# Altium footprint library PINPAD.PCBLIB: 151 footprints (part 8 of 10)
Each footprint in its own frame and in the unit in brackets; x right, y up, seen from the top. Pads: shape width x height; smd on the part's side, far side on the other; paste and mask are expansions set on the pad; w line width, h text height; cw(c..) or ccw(c..) is an arc to the next point about the centre after c.
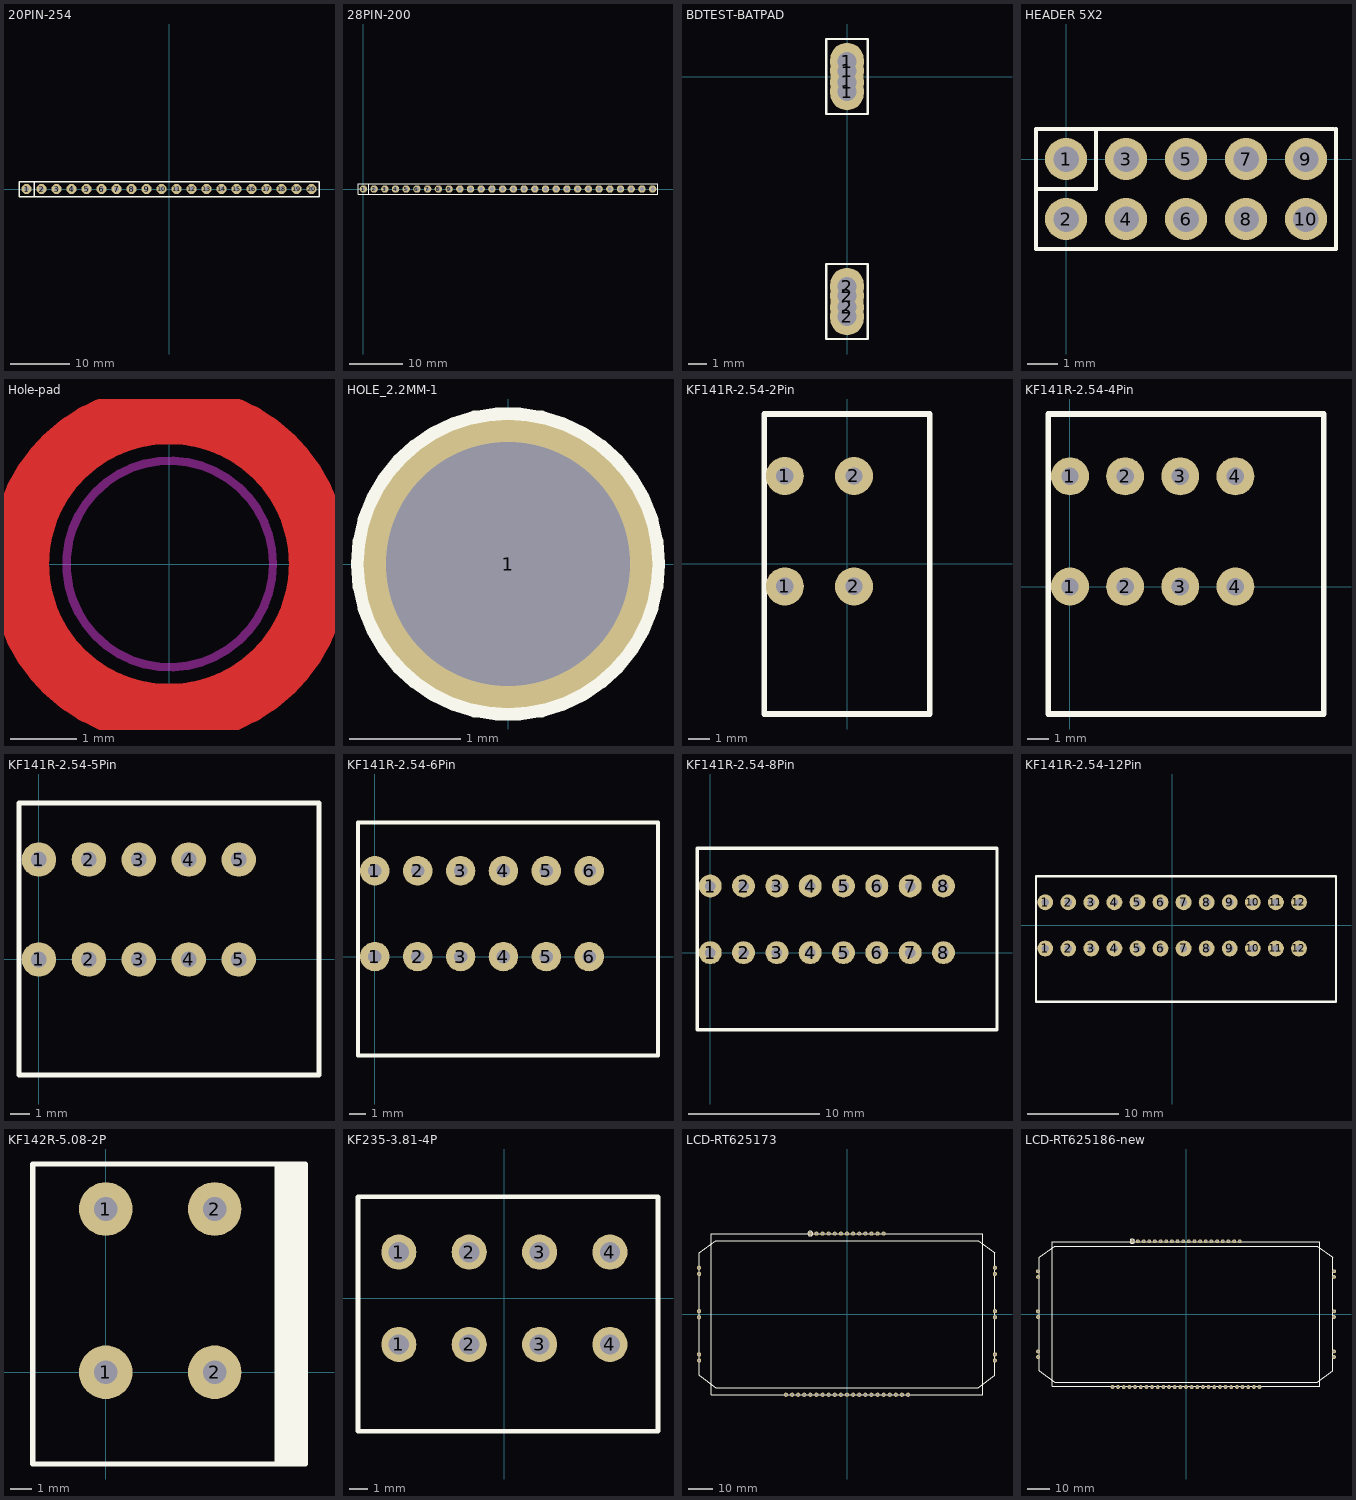
[diagram p7: the footprints below, top view; thin cyan lines are the x and y axes]

## 20PIN-254 [mm]
pads (20):
  round 1.75 hole 0.9: 1(-24.13,0) 2(-21.59,0) 3(-19.05,0) 4(-16.51,0) 5(-13.97,0) 6(-11.43,0) 7(-8.89,0) 8(-6.35,0) 9(-3.81,0) 10(-1.27,0) 11(1.27,0) 12(3.81,0) 13(6.35,0) 14(8.89,0) 15(11.43,0) 16(13.97,0) 17(16.51,0) 18(19.05,0) 19(21.59,0) 20(24.13,0)
TopOverlay:
  lines w0.254: -22.86,-1.27 -22.86,1.27 ; 25.4,1.23 25.4,-1.27 -25.4,-1.27 -25.4,1.27 25.4,1.27

## 28PIN-200 [mm]
pads (28):
  round 1.4 hole 0.7: 1(0,0) 2(2,0) 3(4,0) 4(6,0) 5(8,0) 6(10,0) 7(12,0) 8(14,0) 9(16,0) 10(18,0) 11(20,0) 12(22,0) 13(24,0) 14(26,0) 15(28,0) 16(30,0) 17(32,0) 18(34,0) 19(36,0) 20(38,0) 21(40,0) 22(42,0) 23(44,0) 24(46,0) 25(48,0) 26(50,0) 27(52,0) 28(54,0)
TopOverlay:
  lines w0.2: 1,-1 1,0.975 ; -1,-1 -1,1 55,1 55,-1 -1,-1

## BDTEST-BATPAD [mm]
pads (8):
  oval 1.8x2 hole 1: 1(0,-0.8) 1(0,-0.3) 1(0,0.3) 1(0,0.8) 2(0,-12.8) 2(0,-12.3) 2(0,-11.7) 2(0,-11.2)
TopOverlay:
  lines w0.127: -1.1,-14 -1.1,-10 1.1,-10 1.1,-14 -1.1,-14 ; -1.1,-2 -1.1,2 1.1,2 1.1,-2 -1.1,-2

## HEADER 5X2 [mm]
pads (10):
  round 1.4 hole 0.85: 1(0,0) 2(0,-2) 3(2,0) 4(2,-2) 5(4,0) 6(4,-2) 7(6,0) 8(6,-2) 9(8,0) 10(8,-2)
TopOverlay:
  lines w0.127: -1,-1 1,-1 1,1 ; 8.925,1 -1,1 -1,-3 9,-3 9,1

## Hole-pad [mm] "Hole-pad"
TopLayer:
  circle w0.9: c0,0 r2.25
TopSolder:
  circle w1.1: c0,0 r2.25
KeepOutLayer:
  circle w0.127: c0.01,0 r1.55

## HOLE_2.2MM-1 [mm] "HOLE_2.2MM-1"
pads (1):
  round 2.6 hole 2.2: 1(0,0)
TopOverlay:
  circle w0.127: c0,0 r1.35

## KF141R-2.54-2Pin [mm] "KF141R-2.54-2Pin"
pads (4):
  round 1.75 hole 0.8: 1(-2.86,-1.03) 1(-2.86,4.05) 2(0.32,-1.03) 2(0.32,4.05)
TopOverlay:
  lines w0.254: -3.81,-6.9 3.81,-6.9 3.81,6.9 -3.81,6.9 -3.81,-6.9

## KF141R-2.54-4Pin [mm] "KF141R-2.54-4Pin"
pads (8):
  round 1.75 hole 0.8: 1(0,0) 1(0,5.08) 2(2.54,0) 2(2.54,5.08) 3(5.08,0) 3(5.08,5.08) 4(7.62,0) 4(7.62,5.08)
TopOverlay:
  lines w0.254: -1.01,7.95 6.62,7.95 ; -1,7.93 -1,-5.87 6.62,-5.87 ; 1.53,7.95 11.7,7.95 11.7,-5.85 ; 1.54,-5.87 11.7,-5.87

## KF141R-2.54-5Pin [mm] "KF141R-2.54-5Pin"
pads (10):
  round 1.75 hole 0.8: 1(0,0) 1(0,5.08) 2(2.54,0) 2(2.54,5.08) 3(5.08,0) 3(5.08,5.08) 4(7.62,0) 4(7.62,5.08) 5(10.16,0) 5(10.16,5.08)
TopOverlay:
  lines w0.254: -1.01,7.95 6.62,7.95 ; -1,7.93 -1,-5.87 6.62,-5.87 ; 1.53,7.95 14.24,7.95 14.24,-5.85 ; 1.54,-5.87 14.24,-5.87

## KF141R-2.54-6Pin [mm] "KF141R-2.54-6Pin"
pads (12):
  round 1.75 hole 0.8: 1(0,0) 1(0,5.08) 2(2.54,0) 2(2.54,5.08) 3(5.08,0) 3(5.08,5.08) 4(7.62,0) 4(7.62,5.08) 5(10.16,0) 5(10.16,5.08) 6(12.7,0) 6(12.7,5.08)
TopOverlay:
  lines w0.254: -1,7.93 -1,-5.87 6.62,-5.87 ; -1,7.95 6.62,7.95 ; 1.53,7.95 16.78,7.95 16.78,-5.85 ; 1.54,-5.87 16.78,-5.87

## KF141R-2.54-8Pin [mm] "KF141R-2.54-8Pin"
pads (16):
  round 1.75 hole 0.8: 1(0,0) 1(0,5.08) 2(2.54,0) 2(2.54,5.08) 3(5.08,0) 3(5.08,5.08) 4(7.62,0) 4(7.62,5.08) 5(10.16,0) 5(10.16,5.08) 6(12.7,0) 6(12.7,5.08) 7(15.24,0) 7(15.24,5.08) 8(17.78,0) 8(17.78,5.08)
TopOverlay:
  lines w0.254: -1.01,7.95 6.62,7.95 ; -1,7.93 -1,-5.87 6.62,-5.87 ; 1.53,7.95 21.86,7.95 21.86,-5.85 ; 1.54,-5.87 21.86,-5.87

## KF141R-2.54-12Pin [mm] "KF141R-2.54-12Pin"
pads (24):
  round 1.75 hole 0.8: 1(-13.97,-2.54) 1(-13.97,2.54) 2(-11.43,-2.54) 2(-11.43,2.54) 3(-8.89,-2.54) 3(-8.89,2.54) 4(-6.35,-2.54) 4(-6.35,2.54) 5(-3.81,-2.54) 5(-3.81,2.54) 6(-1.27,-2.54) 6(-1.27,2.54) 7(1.27,-2.54) 7(1.27,2.54) 8(3.81,-2.54) 8(3.81,2.54) 9(6.35,-2.54) 9(6.35,2.54) 10(8.89,-2.54) 10(8.89,2.54) 11(11.43,-2.54) 11(11.43,2.54) 12(13.97,-2.54) 12(13.97,2.54)
TopOverlay:
  lines w0.254: -14.98,5.41 -7.35,5.41 ; -14.97,5.39 -14.97,-8.41 -7.35,-8.41 ; -12.44,5.41 18.05,5.41 18.05,-8.39 ; -12.43,-8.41 18.05,-8.41

## KF142R-5.08-2P [mm] "KF142R-5.08-2P"
pads (4):
  round 2.5 hole 1.1: 1(0,0) 1(0,7.62) 2(5.08,0) 2(5.08,7.62)
TopOverlay:
  rectangle: 8.025,-4.28 9.3,9.72
  lines w0.254: 8,-4.28 8,9.72 ; -3.4,-4.28 -3.4,9.72 9.3,9.72 9.3,-4.28 -3.4,-4.28

## KF235-3.81-4P [mm] "KF235-3.81-4P"
pads (8):
  round 1.9 hole 1.1: 1(-5.715,-2.5) 1(-5.715,2.5) 2(-1.905,-2.5) 2(-1.905,2.5) 3(1.905,-2.5) 3(1.905,2.5) 4(5.715,-2.5) 4(5.715,2.5)
TopOverlay:
  lines w0.254: -7.925,-7.2 8.315,-7.2 8.315,5.5 -7.925,5.5 -7.925,-7.2

## LCD-RT625173 [mm] "LCD-RT625173"
pads (46):
  round 1.75 hole 0.9: 1(-15.24,33.5) 2(-12.7,33.5) 3(-10.16,33.5) 4(-7.62,33.5) 5(-5.08,33.5) 6(-2.54,33.5) 7(0,33.5) 8(2.54,33.5) 9(5.08,33.5) 10(7.62,33.5) 11(10.16,33.5) 12(12.7,33.5) 13(15.24,33.5) 14(-25.4,-33.5) 15(-22.86,-33.5) 16(-20.32,-33.5) 17(-17.78,-33.5) 18(-15.24,-33.5) 19(-12.7,-33.5) 20(-10.16,-33.5) 21(-7.62,-33.5) 22(-5.08,-33.5) 23(-2.54,-33.5) 24(0,-33.5) 25(2.54,-33.5) 26(5.08,-33.5) 27(7.62,-33.5) 28(10.16,-33.5) 29(12.7,-33.5) 30(15.24,-33.5) 31(17.78,-33.5) 32(20.32,-33.5) 33(22.86,-33.5) 34(25.4,-33.5) L1(-61.5,19.27) L2(-61.5,16.73) L3(-61.5,1.27) L4(-61.5,-1.27) L5(-61.5,-16.73) L6(-61.5,-19.27) L7(61.5,19.27) L8(61.5,16.73) L9(61.5,1.27) L10(61.5,-1.27) L11(61.5,-16.73) L12(61.5,-19.27)
TopOverlay:
  circle w0.2: c-15.24,33.519 r1
  lines w0.2: -61.5,-25.5 -54.5,-30.5 54.5,-30.5 61.5,-25.5 61.5,25.5 54.5,30.5 -54.5,30.5 -61.5,25.5 -61.5,-25.5 ; -56.5,-33.5 -56.5,33.5 56.5,33.5 56.5,-33.5 -56.5,-33.5

## LCD-RT625186-new [mm] "LCD-RT625186"
pads (59):
  round 1.75 hole 0.9: 1(-24.13,32.75) 2(-21.59,32.75) 3(-19.05,32.75) 4(-16.51,32.75) 5(-13.97,32.75) 6(-11.43,32.75) 7(-8.89,32.75) 8(-6.35,32.75) 9(-3.81,32.75) 10(-1.27,32.75) 11(1.27,32.75) 12(3.81,32.75) 13(6.35,32.75) 14(8.89,32.75) 15(11.43,32.75) 16(13.97,32.75) 17(16.51,32.75) 18(19.05,32.75) 19(21.59,32.75) 20(24.13,32.75) 21(-33.02,-32.75) 22(-30.48,-32.75) 23(-27.94,-32.75) 24(-25.4,-32.75) 25(-22.86,-32.75) 26(-20.32,-32.75) 27(-17.78,-32.75) 28(-15.24,-32.75) 29(-12.7,-32.75) 30(-10.16,-32.75) 31(-7.62,-32.75) 32(-5.08,-32.75) 33(-2.54,-32.75) 34(0,-32.75) 35(2.54,-32.75) 36(5.08,-32.75) 37(7.62,-32.75) 38(10.16,-32.75) 39(12.7,-32.75) 40(15.24,-32.75) 41(17.78,-32.75) 42(20.32,-32.75) 43(22.86,-32.75) 44(25.4,-32.75) 45(27.94,-32.75) 46(30.48,-32.75) 47(33.02,-32.75) L1(-66.5,19.27) L2(-66.5,16.73) L3(-66.5,1.27) L4(-66.5,-1.27) L5(-66.5,-16.73) L6(-66.5,-19.27) L7(66.5,19.27) L8(66.5,16.73) L9(66.5,1.27) L10(66.5,-1.27) L11(66.5,-16.73) L12(66.5,-19.27)
TopOverlay:
  circle w0.2: c-24.125,32.75 r1
  lines w0.2: -66,-25.5 -59,-30.5 59,-30.5 66,-25.5 66,25.5 59,30.5 -59,30.5 -66,25.5 -66,-25.5 ; -60,-32.5 -60,32.5 60,32.5 60,-32.5 -60,-32.5